# Altium integrated library TI_Logic_Flip-Flop,Latch,Register.IntLib: 2598 symbols (part 90 of 122)
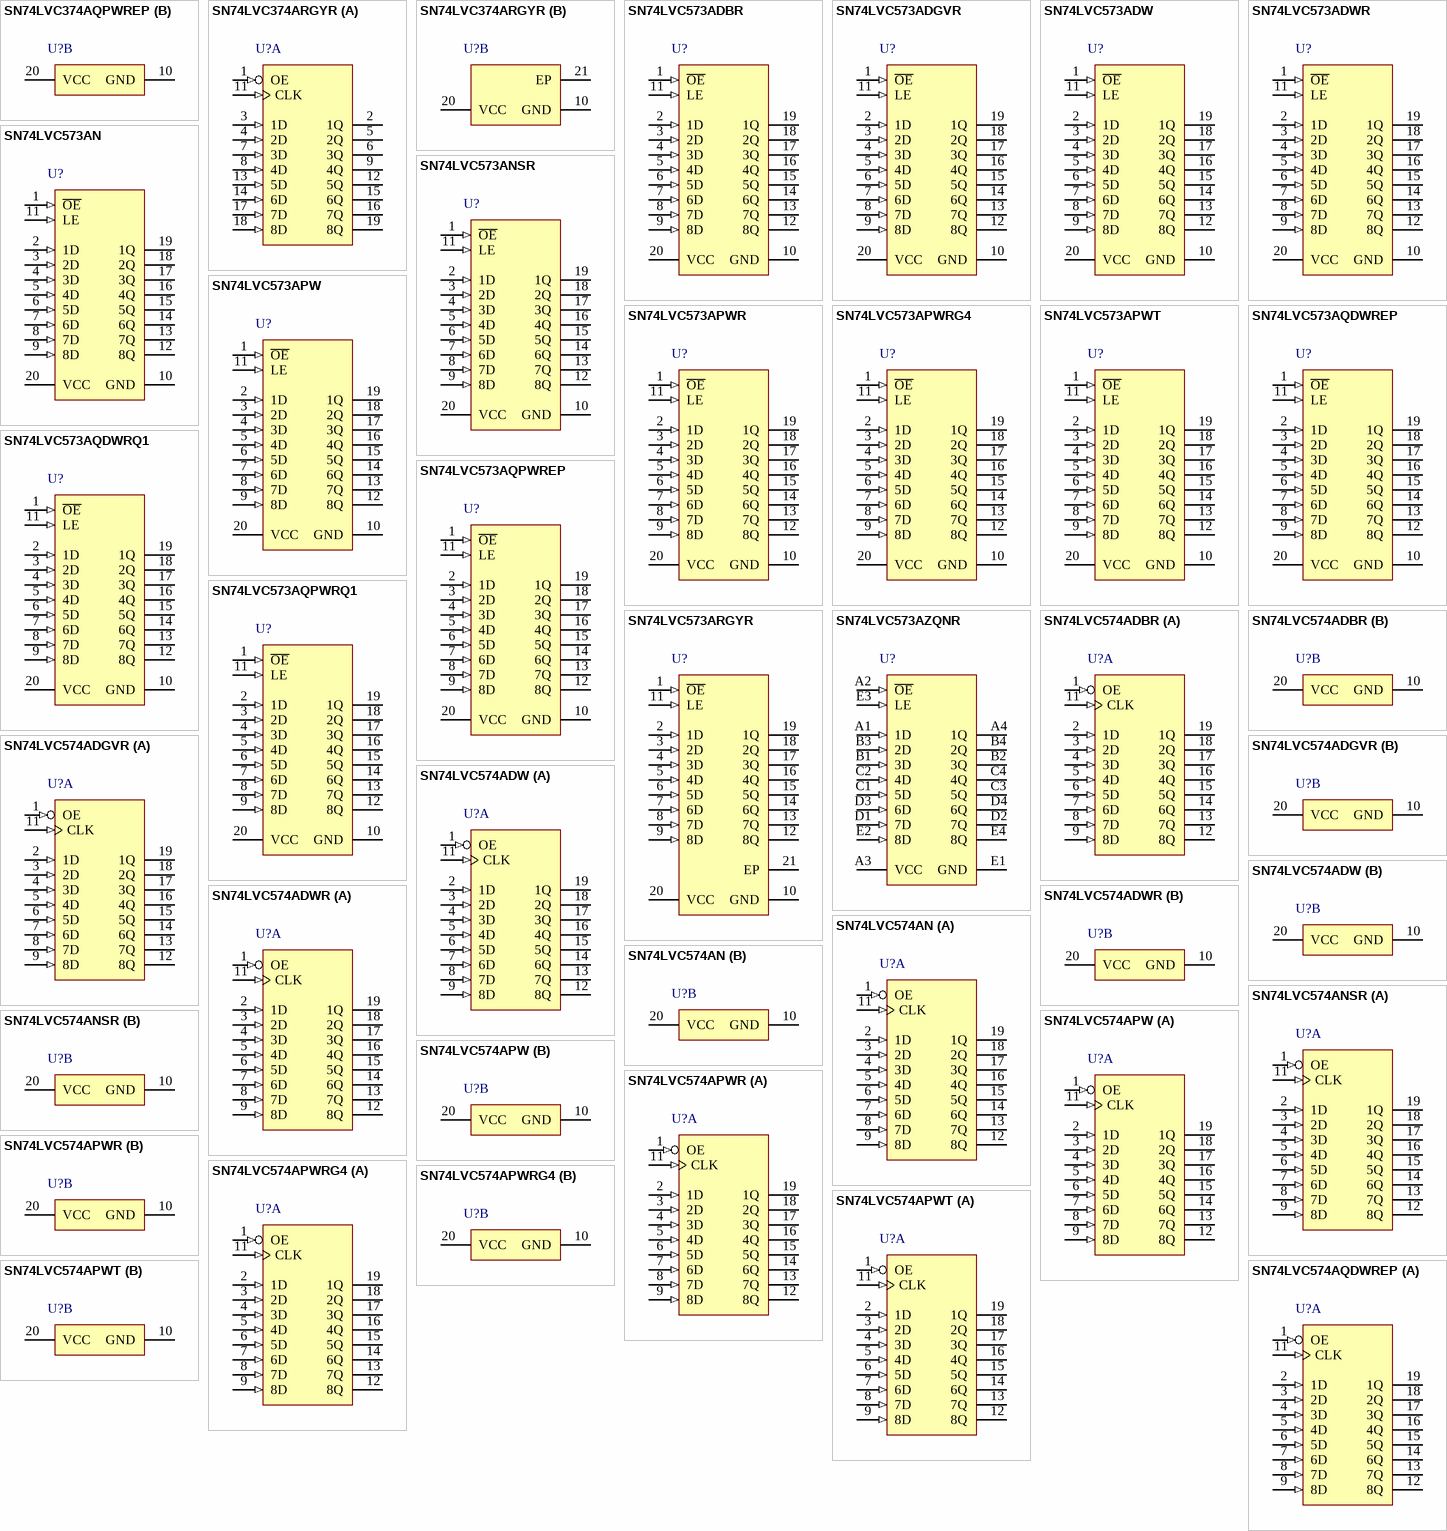
[diagram p228: symbols SN74LVC374AQPWREP to SN74LVC574AQDWREP]

## SN74LVC574ADWR
designator U?
Octal Edge-Triggered D-Type Flip-Flop With 3-State Outputs, DW0020A, LARGE T&R; Generic Part Number: SN74LVC574A; Manufacturer: Texas Instruments; PartNumber: SN74LVC574ADWR; VCC(Min)(V): 1.65; VCC(Max)(V): 3.6; Output Type: CMOS; ICC @ Nom Voltage(Max)(mA): 0.01; Input Type: TTL,CMOS; Bits(#): 8; F @ Nom Voltage(Max)(Mhz): 100; Rating: Catalog; Technology Family: LVC; Voltage(Nom)(V): 1.8,2.5,2.7,3.3; Schmitt Trigger: No; Output Drive (IOL/IOH)(Max)(mA): 24/-24; Output Logic: Non-inverted; 3-State Output: Yes; tpd @ Nom Voltage(Max)(ns): 21.5,10,7.8,8.8; DatasheetVersion: SCAS301R; PackageReference: DW0020A; Supplier 1: Digi-Key; Supplier Part Number 1: 296-14914-2-ND; Supplier 2: Digi-Key; Supplier Part Number 2: 296-14914-1-ND; Supplier 3: Digi-Key; Supplier Part Number 3: 296-14914-6-ND; Supplier 4: Farnell; Supplier Part Number 4: 1739892; Supplier 5: Newark; Supplier Part Number 5: 50R6638; Supplier 6: Mouser; Supplier Part Number 6: 595-SN74LVC574ADWR; Operating Temperature Range(C): -40 to 125,-40 to 85,-55 to 125; Code_JEDEC: MS-013; ComponentLink1Description: Manufacturer URL; ComponentLink1URL: http://www.ti.com/; ComponentLink2Description: Datasheet; ComponentLink2URL: http://www.ti.com/lit/ds/symlink/sn74lvc574a.pdf; ComponentLink3Description: Package Specification; ComponentLink3URL: http://www.ti.com/lit/ml/mpds173a/mpds173a.pdf
footprint DW0020A_N (SOIC, 20-Leads, Body 13x7.6mm, Pitch 1.27mm, IPC Medium Density)
footprint DW0020A_M (SOIC, 20-Leads, Body 13x7.6mm, Pitch 1.27mm, IPC Low Density)
footprint DW0020A_L (SOIC, 20-Leads, Body 13x7.6mm, Pitch 1.27mm, IPC High Density)
part A pins: 1 OE (in), 2 1D (in), 3 2D (in), 4 3D (in), 5 4D (in), 6 5D (in), 7 6D (in), 8 7D (in), 9 8D (in), 11 CLK (in), 12 8Q (hiz), 13 7Q (hiz), 14 6Q (hiz), 15 5Q (hiz), 16 4Q (hiz), 17 3Q (hiz), 18 2Q (hiz), 19 1Q (hiz)
part B pins: 10 GND (power), 20 VCC (power)

## SN74LVC574AN
designator U?
Octal Edge-Triggered D-Type Flip-Flop With 3-State Outputs, N0020A, TUBE; Generic Part Number: SN74LVC574A; Manufacturer: Texas Instruments; PartNumber: SN74LVC574AN; VCC(Min)(V): 1.65; VCC(Max)(V): 3.6; Output Type: CMOS; ICC @ Nom Voltage(Max)(mA): 0.01; Input Type: TTL,CMOS; Bits(#): 8; F @ Nom Voltage(Max)(Mhz): 100; Rating: Catalog; Technology Family: LVC; Voltage(Nom)(V): 1.8,2.5,2.7,3.3; Schmitt Trigger: No; Output Drive (IOL/IOH)(Max)(mA): 24/-24; Output Logic: Non-inverted; 3-State Output: Yes; tpd @ Nom Voltage(Max)(ns): 21.5,10,7.8,8.8; DatasheetVersion: SCAS301R; PackageReference: N0020A; Supplier 1: Digi-Key; Supplier Part Number 1: 296-12910-5-ND; Supplier 2: Farnell; Supplier Part Number 2: 1750048; Supplier 3: Mouser; Supplier Part Number 3: 595-SN74LVC574AN; Operating Temperature Range(C): -40 to 125,-40 to 85,-55 to 125; Code_JEDEC: MS-001; ComponentLink1Description: Manufacturer URL; ComponentLink1URL: http://www.ti.com/; ComponentLink2Description: Datasheet; ComponentLink2URL: http://www.ti.com/lit/ds/symlink/sn74lvc574a.pdf; ComponentLink3Description: Package Specification; ComponentLink3URL: http://www.ti.com/lit/ml/mpdi002c/mpdi002c.pdf
footprint N0020A (DIP, 20-Leads, Body 26.9x6.6mm, Pitch 2.54mm)
part A pins: 1 OE (in), 2 1D (in), 3 2D (in), 4 3D (in), 5 4D (in), 6 5D (in), 7 6D (in), 8 7D (in), 9 8D (in), 11 CLK (in), 12 8Q (hiz), 13 7Q (hiz), 14 6Q (hiz), 15 5Q (hiz), 16 4Q (hiz), 17 3Q (hiz), 18 2Q (hiz), 19 1Q (hiz)
part B pins: 10 GND (power), 20 VCC (power)

## SN74LVC574ANSR
designator U?
Octal Edge-Triggered D-Type Flip-Flop With 3-State Outputs, NS0020A, LARGE T&R; Generic Part Number: SN74LVC574A; Manufacturer: Texas Instruments; PartNumber: SN74LVC574ANSR; VCC(Min)(V): 1.65; VCC(Max)(V): 3.6; Output Type: CMOS; ICC @ Nom Voltage(Max)(mA): 0.01; Input Type: TTL,CMOS; Bits(#): 8; F @ Nom Voltage(Max)(Mhz): 100; Rating: Catalog; Technology Family: LVC; Voltage(Nom)(V): 1.8,2.5,2.7,3.3; Schmitt Trigger: No; Output Drive (IOL/IOH)(Max)(mA): 24/-24; Output Logic: Non-inverted; 3-State Output: Yes; tpd @ Nom Voltage(Max)(ns): 21.5,10,7.8,8.8; DatasheetVersion: SCAS301R; PackageReference: NS0020A; Supplier 1: Digi-Key; Supplier Part Number 1: 296-28852-2-ND; Supplier 2: Digi-Key; Supplier Part Number 2: 296-28852-1-ND; Supplier 3: Digi-Key; Supplier Part Number 3: 296-28852-6-ND; Supplier 4: Mouser; Supplier Part Number 4: 595-SN74LVC574ANSR; Operating Temperature Range(C): -40 to 125,-40 to 85,-55 to 125; ComponentLink1Description: Manufacturer URL; ComponentLink1URL: http://www.ti.com/; ComponentLink2Description: Datasheet; ComponentLink2URL: http://www.ti.com/lit/ds/symlink/sn74lvc574a.pdf; ComponentLink3Description: Package Specification; ComponentLink3URL: http://www.ti.com/lit/ml/msop002a/msop002a.pdf
footprint NS0020A_N (SOIC,20-Leads,Body 12.9x5.6mm,Pitch 1.27mm,IPC Medium Density)
footprint NS0020A_M (SOIC,20-Leads,Body 12.9x5.6mm,Pitch 1.27mm,IPC Low Density)
footprint NS0020A_L (SOIC,20-Leads,Body 12.9x5.6mm,Pitch 1.27mm,IPC High Density)
part A pins: 1 OE (in), 2 1D (in), 3 2D (in), 4 3D (in), 5 4D (in), 6 5D (in), 7 6D (in), 8 7D (in), 9 8D (in), 11 CLK (in), 12 8Q (hiz), 13 7Q (hiz), 14 6Q (hiz), 15 5Q (hiz), 16 4Q (hiz), 17 3Q (hiz), 18 2Q (hiz), 19 1Q (hiz)
part B pins: 10 GND (power), 20 VCC (power)

## SN74LVC574APW
designator U?
Octal Edge-Triggered D-Type Flip-Flop With 3-State Outputs, PW0020A, TUBE; Generic Part Number: SN74LVC574A; Manufacturer: Texas Instruments; PartNumber: SN74LVC574APW; VCC(Min)(V): 1.65; VCC(Max)(V): 3.6; Output Type: CMOS; ICC @ Nom Voltage(Max)(mA): 0.01; Input Type: TTL,CMOS; Bits(#): 8; F @ Nom Voltage(Max)(Mhz): 100; Rating: Catalog; Technology Family: LVC; Voltage(Nom)(V): 1.8,2.5,2.7,3.3; Schmitt Trigger: No; Output Drive (IOL/IOH)(Max)(mA): 24/-24; Output Logic: Non-inverted; 3-State Output: Yes; tpd @ Nom Voltage(Max)(ns): 21.5,10,7.8,8.8; DatasheetVersion: SCAS301R; PackageReference: PW0020A; Supplier 1: Digi-Key; Supplier Part Number 1: 296-26630-5-ND; Supplier 2: Farnell; Supplier Part Number 2: 9592814; Supplier 3: Newark; Supplier Part Number 3: 98K0493; Supplier 4: Mouser; Supplier Part Number 4: 595-SN74LVC574APW; Operating Temperature Range(C): -40 to 125,-40 to 85,-55 to 125; Code_JEDEC: MO-153; ComponentLink1Description: Manufacturer URL; ComponentLink1URL: http://www.ti.com/; ComponentLink2Description: Datasheet; ComponentLink2URL: http://www.ti.com/lit/ds/symlink/sn74lvc574a.pdf; ComponentLink3Description: Package Specification; ComponentLink3URL: http://www.ti.com/lit/ml/mpds362/mpds362.pdf
footprint PW0020A_N (SOP, 20-Leads, Body 6.6x4.5mm, Pitch 0.65mm, IPC Medium Density)
footprint PW0020A_M (SOP, 20-Leads, Body 6.6x4.5mm, Pitch 0.65mm, IPC Low Density)
footprint PW0020A_L (SOP, 20-Leads, Body 6.6x4.5mm, Pitch 0.65mm, IPC High Density)
part A pins: 1 OE (in), 2 1D (in), 3 2D (in), 4 3D (in), 5 4D (in), 6 5D (in), 7 6D (in), 8 7D (in), 9 8D (in), 11 CLK (in), 12 8Q (hiz), 13 7Q (hiz), 14 6Q (hiz), 15 5Q (hiz), 16 4Q (hiz), 17 3Q (hiz), 18 2Q (hiz), 19 1Q (hiz)
part B pins: 10 GND (power), 20 VCC (power)

## SN74LVC574APWR
designator U?
Octal Edge-Triggered D-Type Flip-Flop With 3-State Outputs, PW0020A, LARGE T&R; Generic Part Number: SN74LVC574A; Manufacturer: Texas Instruments; PartNumber: SN74LVC574APWR; VCC(Min)(V): 1.65; VCC(Max)(V): 3.6; Output Type: CMOS; ICC @ Nom Voltage(Max)(mA): 0.01; Input Type: TTL,CMOS; Bits(#): 8; F @ Nom Voltage(Max)(Mhz): 100; Rating: Catalog; Technology Family: LVC; Voltage(Nom)(V): 1.8,2.5,2.7,3.3; Schmitt Trigger: No; Output Drive (IOL/IOH)(Max)(mA): 24/-24; Output Logic: Non-inverted; 3-State Output: Yes; tpd @ Nom Voltage(Max)(ns): 21.5,10,7.8,8.8; DatasheetVersion: SCAS301R; PackageReference: PW0020A; Supplier 1: Digi-Key; Supplier Part Number 1: 296-8532-2-ND; Supplier 2: Digi-Key; Supplier Part Number 2: 296-8532-1-ND; Supplier 3: Digi-Key; Supplier Part Number 3: 296-8532-6-ND; Supplier 4: Farnell; Supplier Part Number 4: 2437277; Supplier 5: Farnell; Supplier Part Number 5: 2120455; Supplier 6: Newark; Supplier Part Number 6: 94T5069; Supplier 7: Newark; Supplier Part Number 7: 76C4321; Supplier 8: Mouser; Supplier Part Number 8: 595-SN74LVC574APWR; Operating Temperature Range(C): -40 to 125,-40 to 85,-55 to 125; Code_JEDEC: MO-153; ComponentLink1Description: Manufacturer URL; ComponentLink1URL: http://www.ti.com/; ComponentLink2Description: Datasheet; ComponentLink2URL: http://www.ti.com/lit/ds/symlink/sn74lvc574a.pdf; ComponentLink3Description: Package Specification; ComponentLink3URL: http://www.ti.com/lit/ml/mpds362/mpds362.pdf
footprint PW0020A_N (SOP, 20-Leads, Body 6.6x4.5mm, Pitch 0.65mm, IPC Medium Density)
footprint PW0020A_M (SOP, 20-Leads, Body 6.6x4.5mm, Pitch 0.65mm, IPC Low Density)
footprint PW0020A_L (SOP, 20-Leads, Body 6.6x4.5mm, Pitch 0.65mm, IPC High Density)
part A pins: 1 OE (in), 2 1D (in), 3 2D (in), 4 3D (in), 5 4D (in), 6 5D (in), 7 6D (in), 8 7D (in), 9 8D (in), 11 CLK (in), 12 8Q (hiz), 13 7Q (hiz), 14 6Q (hiz), 15 5Q (hiz), 16 4Q (hiz), 17 3Q (hiz), 18 2Q (hiz), 19 1Q (hiz)
part B pins: 10 GND (power), 20 VCC (power)

## SN74LVC574APWRG4
designator U?
Octal Edge-Triggered D-Type Flip-Flop With 3-State Outputs, PW0020A, LARGE T&R; Generic Part Number: SN74LVC574A; Manufacturer: Texas Instruments; PartNumber: SN74LVC574APWRG4; VCC(Min)(V): 1.65; VCC(Max)(V): 3.6; Output Type: CMOS; ICC @ Nom Voltage(Max)(mA): 0.01; Input Type: TTL,CMOS; Bits(#): 8; F @ Nom Voltage(Max)(Mhz): 100; Rating: Catalog; Technology Family: LVC; Voltage(Nom)(V): 1.8,2.5,2.7,3.3; Schmitt Trigger: No; Output Drive (IOL/IOH)(Max)(mA): 24/-24; Output Logic: Non-inverted; 3-State Output: Yes; tpd @ Nom Voltage(Max)(ns): 21.5,10,7.8,8.8; DatasheetVersion: SCAS301R; PackageReference: PW0020A; Supplier 1: Digi-Key; Supplier Part Number 1: SN74LVC574APWRG4-ND; Supplier 2: Mouser; Supplier Part Number 2: 595-SN74LVC574APWRG4; Operating Temperature Range(C): -40 to 125,-40 to 85,-55 to 125; Code_JEDEC: MO-153; ComponentLink1Description: Manufacturer URL; ComponentLink1URL: http://www.ti.com/; ComponentLink2Description: Datasheet; ComponentLink2URL: http://www.ti.com/lit/ds/symlink/sn74lvc574a.pdf; ComponentLink3Description: Package Specification; ComponentLink3URL: http://www.ti.com/lit/ml/mpds362/mpds362.pdf
footprint PW0020A_N (SOP, 20-Leads, Body 6.6x4.5mm, Pitch 0.65mm, IPC Medium Density)
footprint PW0020A_M (SOP, 20-Leads, Body 6.6x4.5mm, Pitch 0.65mm, IPC Low Density)
footprint PW0020A_L (SOP, 20-Leads, Body 6.6x4.5mm, Pitch 0.65mm, IPC High Density)
part A pins: 1 OE (in), 2 1D (in), 3 2D (in), 4 3D (in), 5 4D (in), 6 5D (in), 7 6D (in), 8 7D (in), 9 8D (in), 11 CLK (in), 12 8Q (hiz), 13 7Q (hiz), 14 6Q (hiz), 15 5Q (hiz), 16 4Q (hiz), 17 3Q (hiz), 18 2Q (hiz), 19 1Q (hiz)
part B pins: 10 GND (power), 20 VCC (power)

## SN74LVC574APWT
designator U?
Octal Edge-Triggered D-Type Flip-Flop With 3-State Outputs, PW0020A, SMALL T&R; Generic Part Number: SN74LVC574A; Manufacturer: Texas Instruments; PartNumber: SN74LVC574APWT; VCC(Min)(V): 1.65; VCC(Max)(V): 3.6; Output Type: CMOS; ICC @ Nom Voltage(Max)(mA): 0.01; Input Type: TTL,CMOS; Bits(#): 8; F @ Nom Voltage(Max)(Mhz): 100; Rating: Catalog; Technology Family: LVC; Voltage(Nom)(V): 1.8,2.5,2.7,3.3; Schmitt Trigger: No; Output Drive (IOL/IOH)(Max)(mA): 24/-24; Output Logic: Non-inverted; 3-State Output: Yes; tpd @ Nom Voltage(Max)(ns): 21.5,10,7.8,8.8; DatasheetVersion: SCAS301R; PackageReference: PW0020A; Supplier 1: Digi-Key; Supplier Part Number 1: SN74LVC574APWT-ND; Supplier 2: Farnell; Supplier Part Number 2: 2406881; Supplier 3: Newark; Supplier Part Number 3: 45Y7763; Supplier 4: Mouser; Supplier Part Number 4: 595-SN74LVC574APWT; Operating Temperature Range(C): -40 to 125,-40 to 85,-55 to 125; Code_JEDEC: MO-153; ComponentLink1Description: Manufacturer URL; ComponentLink1URL: http://www.ti.com/; ComponentLink2Description: Datasheet; ComponentLink2URL: http://www.ti.com/lit/ds/symlink/sn74lvc574a.pdf; ComponentLink3Description: Package Specification; ComponentLink3URL: http://www.ti.com/lit/ml/mpds362/mpds362.pdf
footprint PW0020A_N (SOP, 20-Leads, Body 6.6x4.5mm, Pitch 0.65mm, IPC Medium Density)
footprint PW0020A_M (SOP, 20-Leads, Body 6.6x4.5mm, Pitch 0.65mm, IPC Low Density)
footprint PW0020A_L (SOP, 20-Leads, Body 6.6x4.5mm, Pitch 0.65mm, IPC High Density)
part A pins: 1 OE (in), 2 1D (in), 3 2D (in), 4 3D (in), 5 4D (in), 6 5D (in), 7 6D (in), 8 7D (in), 9 8D (in), 11 CLK (in), 12 8Q (hiz), 13 7Q (hiz), 14 6Q (hiz), 15 5Q (hiz), 16 4Q (hiz), 17 3Q (hiz), 18 2Q (hiz), 19 1Q (hiz)
part B pins: 10 GND (power), 20 VCC (power)

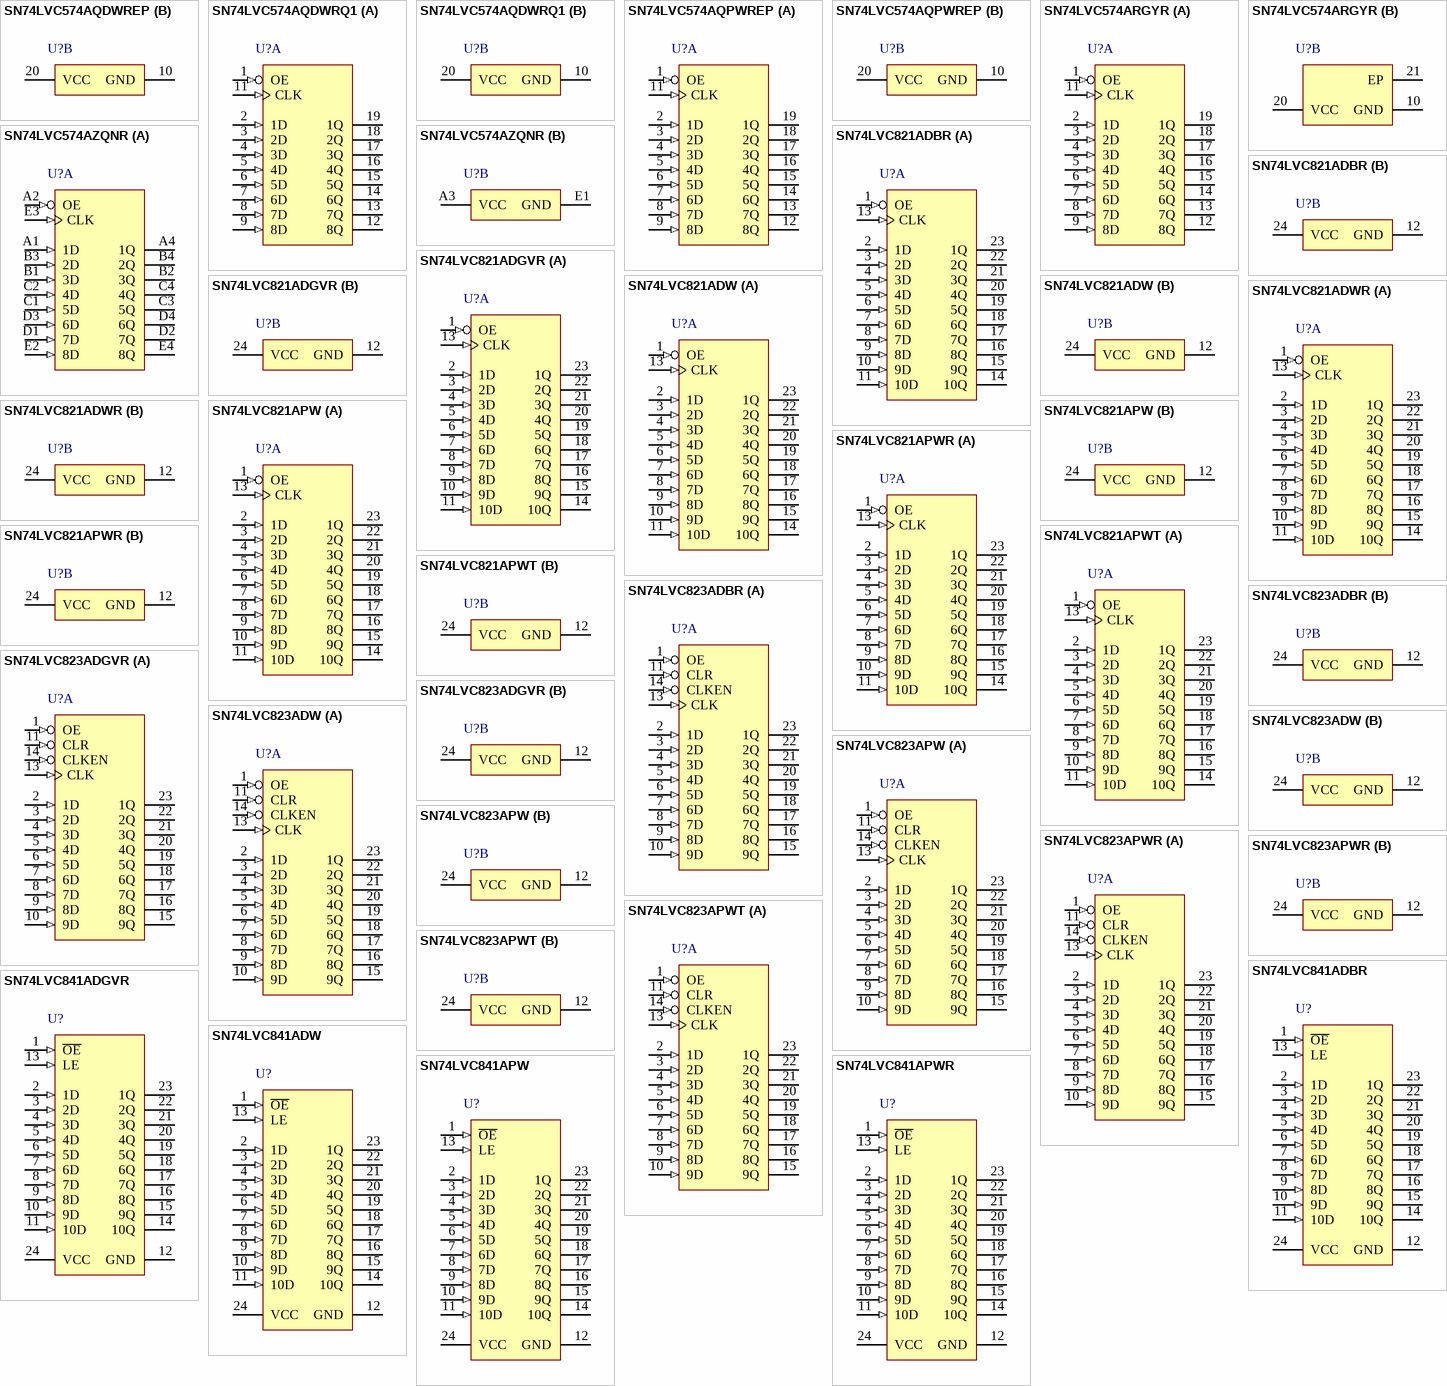
[diagram p106: symbols SN74LVC574AQDWREP to SN74LVC841APWR]

## SN74LVC574AQDWREP
designator U?
Enhanced Product Octal Edge-Triggered D-Type Flip-Flop With 3-State Outputs, DW0020A, LARGE T&R; Generic Part Number: SN74LVC574A-EP; Manufacturer: Texas Instruments; PartNumber: SN74LVC574AQDWREP; VCC(Min)(V): 2; VCC(Max)(V): 3.6; Output Type: CMOS; ICC @ Nom Voltage(Max)(mA): 0.01; Input Type: TTL,CMOS; Bits(#): 8; F @ Nom Voltage(Max)(Mhz): 100; Rating: HiRel Enhanced Product; Technology Family: LVC; Voltage(Nom)(V): 2.7,3.3; Schmitt Trigger: No; Output Drive (IOL/IOH)(Max)(mA): 24/-24; Output Logic: Non-inverted; 3-State Output: Yes; tpd @ Nom Voltage(Max)(ns): 8,7; DatasheetVersion: SCAS750A; PackageReference: DW0020A; Supplier 1: Digi-Key; Supplier Part Number 1: 296-22376-2-ND; Supplier 2: Digi-Key; Supplier Part Number 2: 296-22376-1-ND; Supplier 3: Digi-Key; Supplier Part Number 3: 296-22376-6-ND; Supplier 4: Newark; Supplier Part Number 4: 46M0697; Supplier 5: Mouser; Supplier Part Number 5: 595-N74LVC574AQDWREP; Operating Temperature Range(C): -40 to 125; Code_JEDEC: MS-013; ComponentLink1Description: Manufacturer URL; ComponentLink1URL: http://www.ti.com/; ComponentLink2Description: Datasheet; ComponentLink2URL: http://www.ti.com/lit/ds/symlink/sn74lvc574a-ep.pdf; ComponentLink3Description: Package Specification; ComponentLink3URL: http://www.ti.com/lit/ml/mpds173a/mpds173a.pdf
footprint DW0020A_N (SOIC, 20-Leads, Body 13x7.6mm, Pitch 1.27mm, IPC Medium Density)
footprint DW0020A_M (SOIC, 20-Leads, Body 13x7.6mm, Pitch 1.27mm, IPC Low Density)
footprint DW0020A_L (SOIC, 20-Leads, Body 13x7.6mm, Pitch 1.27mm, IPC High Density)
part A pins: 1 OE (in), 2 1D (in), 3 2D (in), 4 3D (in), 5 4D (in), 6 5D (in), 7 6D (in), 8 7D (in), 9 8D (in), 11 CLK (in), 12 8Q (hiz), 13 7Q (hiz), 14 6Q (hiz), 15 5Q (hiz), 16 4Q (hiz), 17 3Q (hiz), 18 2Q (hiz), 19 1Q (hiz)
part B pins: 10 GND (power), 20 VCC (power)

## SN74LVC574AQDWRQ1
designator U?
Automotive Catalog Octal Edge-Triggered D-Type Flip-Flop With 3-State Outputs, DW0020A, LARGE T&R; Generic Part Number: SN74LVC574A-Q1; Manufacturer: Texas Instruments; PartNumber: SN74LVC574AQDWRQ1; VCC(Min)(V): 2; VCC(Max)(V): 3.6; Output Type: CMOS; ICC @ Nom Voltage(Max)(mA): 0.01; Input Type: TTL,CMOS; Bits(#): 8; F @ Nom Voltage(Max)(Mhz): 100; Technology Family: LVC; Voltage(Nom)(V): 2.7,3.3; Schmitt Trigger: No; Output Drive (IOL/IOH)(Max)(mA): 24/-24; Output Logic: Non-inverted; 3-State Output: Yes; tpd @ Nom Voltage(Max)(ns): 8,7; DatasheetVersion: SCAS715B; PackageReference: DW0020A; Supplier 1: Digi-Key; Supplier Part Number 1: 296-31921-2-ND; Supplier 2: Digi-Key; Supplier Part Number 2: 296-31921-1-ND; Supplier 3: Digi-Key; Supplier Part Number 3: 296-31921-6-ND; Supplier 4: Mouser; Supplier Part Number 4: 595-SN74LVC574AQDWRQ; Operating Temperature Range(C): -40 to 125; Rating: Automotive; Code_JEDEC: MS-013; ComponentLink1Description: Manufacturer URL; ComponentLink1URL: http://www.ti.com/; ComponentLink2Description: Datasheet; ComponentLink2URL: http://www.ti.com/lit/ds/symlink/sn74lvc574a-q1.pdf; ComponentLink3Description: Package Specification; ComponentLink3URL: http://www.ti.com/lit/ml/mpds173a/mpds173a.pdf
footprint DW0020A_N (SOIC, 20-Leads, Body 13x7.6mm, Pitch 1.27mm, IPC Medium Density)
footprint DW0020A_M (SOIC, 20-Leads, Body 13x7.6mm, Pitch 1.27mm, IPC Low Density)
footprint DW0020A_L (SOIC, 20-Leads, Body 13x7.6mm, Pitch 1.27mm, IPC High Density)
part A pins: 1 OE (in), 2 1D (in), 3 2D (in), 4 3D (in), 5 4D (in), 6 5D (in), 7 6D (in), 8 7D (in), 9 8D (in), 11 CLK (in), 12 8Q (hiz), 13 7Q (hiz), 14 6Q (hiz), 15 5Q (hiz), 16 4Q (hiz), 17 3Q (hiz), 18 2Q (hiz), 19 1Q (hiz)
part B pins: 10 GND (power), 20 VCC (power)

## SN74LVC574AQPWREP
designator U?
Enhanced Product Octal Edge-Triggered D-Type Flip-Flop With 3-State Outputs, PW0020A, LARGE T&R; Generic Part Number: SN74LVC574A-EP; Manufacturer: Texas Instruments; PartNumber: SN74LVC574AQPWREP; VCC(Min)(V): 2; VCC(Max)(V): 3.6; Output Type: CMOS; ICC @ Nom Voltage(Max)(mA): 0.01; Input Type: TTL,CMOS; Bits(#): 8; F @ Nom Voltage(Max)(Mhz): 100; Rating: HiRel Enhanced Product; Technology Family: LVC; Voltage(Nom)(V): 2.7,3.3; Schmitt Trigger: No; Output Drive (IOL/IOH)(Max)(mA): 24/-24; Output Logic: Non-inverted; 3-State Output: Yes; tpd @ Nom Voltage(Max)(ns): 8,7; DatasheetVersion: SCAS750A; PackageReference: PW0020A; Supplier 1: Digi-Key; Supplier Part Number 1: 296-22377-2-ND; Supplier 2: Digi-Key; Supplier Part Number 2: 296-22377-1-ND; Supplier 3: Digi-Key; Supplier Part Number 3: 296-22377-6-ND; Supplier 4: Mouser; Supplier Part Number 4: 595-N74LVC574AQPWREP; Operating Temperature Range(C): -40 to 125; Code_JEDEC: MO-153; ComponentLink1Description: Manufacturer URL; ComponentLink1URL: http://www.ti.com/; ComponentLink2Description: Datasheet; ComponentLink2URL: http://www.ti.com/lit/ds/symlink/sn74lvc574a-ep.pdf; ComponentLink3Description: Package Specification; ComponentLink3URL: http://www.ti.com/lit/ml/mpds362/mpds362.pdf
footprint PW0020A_N (SOP, 20-Leads, Body 6.6x4.5mm, Pitch 0.65mm, IPC Medium Density)
footprint PW0020A_M (SOP, 20-Leads, Body 6.6x4.5mm, Pitch 0.65mm, IPC Low Density)
footprint PW0020A_L (SOP, 20-Leads, Body 6.6x4.5mm, Pitch 0.65mm, IPC High Density)
part A pins: 1 OE (in), 2 1D (in), 3 2D (in), 4 3D (in), 5 4D (in), 6 5D (in), 7 6D (in), 8 7D (in), 9 8D (in), 11 CLK (in), 12 8Q (hiz), 13 7Q (hiz), 14 6Q (hiz), 15 5Q (hiz), 16 4Q (hiz), 17 3Q (hiz), 18 2Q (hiz), 19 1Q (hiz)
part B pins: 10 GND (power), 20 VCC (power)

## SN74LVC574ARGYR
designator U?
Octal Edge-Triggered D-Type Flip-Flop With 3-State Outputs, RGY0020A, LARGE T&R; Generic Part Number: SN74LVC574A; Manufacturer: Texas Instruments; PartNumber: SN74LVC574ARGYR; VCC(Min)(V): 1.65; VCC(Max)(V): 3.6; Output Type: CMOS; ICC @ Nom Voltage(Max)(mA): 0.01; Input Type: TTL,CMOS; Bits(#): 8; F @ Nom Voltage(Max)(Mhz): 100; Rating: Catalog; Technology Family: LVC; Voltage(Nom)(V): 1.8,2.5,2.7,3.3; Schmitt Trigger: No; Output Drive (IOL/IOH)(Max)(mA): 24/-24; Output Logic: Non-inverted; 3-State Output: Yes; tpd @ Nom Voltage(Max)(ns): 21.5,10,7.8,8.8; DatasheetVersion: SCAS301R; PackageReference: RGY0020A; Supplier 1: Digi-Key; Supplier Part Number 1: 296-13976-2-ND; Supplier 2: Digi-Key; Supplier Part Number 2: 296-13976-1-ND; Supplier 3: Digi-Key; Supplier Part Number 3: 296-13976-6-ND; Supplier 4: Newark; Supplier Part Number 4: 02E7037; Supplier 5: Mouser; Supplier Part Number 5: 595-SN74LVC574ARGYR; Operating Temperature Range(C): -40 to 125,-40 to 85,-55 to 125; Code_JEDEC: MO-241; ComponentLink1Description: Manufacturer URL; ComponentLink1URL: http://www.ti.com/; ComponentLink2Description: Datasheet; ComponentLink2URL: http://www.ti.com/lit/ds/symlink/sn74lvc574a.pdf; ComponentLink3Description: Package Specification; ComponentLink3URL: http://www.ti.com/lit/ml/mpqf116g/mpqf116g.pdf
footprint RGY0020A_V (QFN, 20-Leads, Body 4.5x3.5mm, Thermal Pad 3.05x2.05mm, TI Recommend)
part A pins: 1 OE (in), 2 1D (in), 3 2D (in), 4 3D (in), 5 4D (in), 6 5D (in), 7 6D (in), 8 7D (in), 9 8D (in), 11 CLK (in), 12 8Q (hiz), 13 7Q (hiz), 14 6Q (hiz), 15 5Q (hiz), 16 4Q (hiz), 17 3Q (hiz), 18 2Q (hiz), 19 1Q (hiz)
part B pins: 10 GND (power), 20 VCC (power), 21 EP

## SN74LVC574AZQNR
designator U?
Octal Edge-Triggered D-Type Flip-Flop With 3-State Outputs, ZQN0020A, LARGE T&R; Generic Part Number: SN74LVC574A; Manufacturer: Texas Instruments; PartNumber: SN74LVC574AZQNR; VCC(Min)(V): 1.65; VCC(Max)(V): 3.6; Output Type: CMOS; ICC @ Nom Voltage(Max)(mA): 0.01; Input Type: TTL,CMOS; Bits(#): 8; F @ Nom Voltage(Max)(Mhz): 100; Rating: Catalog; Technology Family: LVC; Voltage(Nom)(V): 1.8,2.5,2.7,3.3; Schmitt Trigger: No; Output Drive (IOL/IOH)(Max)(mA): 24/-24; Output Logic: Non-inverted; 3-State Output: Yes; tpd @ Nom Voltage(Max)(ns): 21.5,10,7.8,8.8; DatasheetVersion: SCAS301R; PackageReference: ZQN0020A; Supplier 1: Digi-Key; Supplier Part Number 1: 296-22017-2-ND; Supplier 2: Digi-Key; Supplier Part Number 2: 296-22017-1-ND; Supplier 3: Digi-Key; Supplier Part Number 3: 296-22017-6-ND; Supplier 4: Mouser; Supplier Part Number 4: 595-SN74LVC574AZQNR; Operating Temperature Range(C): -40 to 125,-40 to 85,-55 to 125; Code_JEDEC: MO-285; ComponentLink1Description: Manufacturer URL; ComponentLink1URL: http://www.ti.com/; ComponentLink2Description: Datasheet; ComponentLink2URL: http://www.ti.com/lit/ds/symlink/sn74lvc574a.pdf; ComponentLink3Description: Package Specification; ComponentLink3URL: http://www.ti.com/lit/ml/mpbg297b/mpbg297b.pdf
footprint ZQN0020A (BGA, 20-Balls, Body 4x3mm, Pitch 0.65mm)
part A pins: A1 1D (in), A2 OE (in), A4 1Q (hiz), B1 3D (in), B2 3Q (hiz), B3 2D (in), B4 2Q (hiz), C1 5D (in), C2 4D (in), C3 5Q (hiz), C4 4Q (hiz), D1 7D (in), D2 7Q (hiz), D3 6D (in), D4 6Q (hiz), E2 8D (in), E3 CLK (in), E4 8Q (hiz)
part B pins: A3 VCC (power), E1 GND (power)

## SN74LVC821ADBR
designator U?
10-Bit Bus-Interface Flip-Flop With 3-State Outputs, DB0024A, LARGE T&R; Generic Part Number: SN74LVC821A; Manufacturer: Texas Instruments; PartNumber: SN74LVC821ADBR; VCC(Min)(V): 1.65; VCC(Max)(V): 3.6; Output Type: CMOS; ICC @ Nom Voltage(Max)(mA): 0.01; Input Type: TTL,CMOS; Bits(#): 10; F @ Nom Voltage(Max)(Mhz): 100; Rating: Catalog; Technology Family: LVC; Voltage(Nom)(V): 1.8,2.5,2.7,3.3; Schmitt Trigger: No; Output Drive (IOL/IOH)(Max)(mA): 24/-24; Output Logic: Non-inverted; 3-State Output: Yes; tpd @ Nom Voltage(Max)(ns): 8.5,7.3; DatasheetVersion: SCAS304J; PackageReference: DB0024A; Supplier 1: Digi-Key; Supplier Part Number 1: 296-8539-2-ND; Supplier 2: Digi-Key; Supplier Part Number 2: 296-8539-1-ND; Supplier 3: Digi-Key; Supplier Part Number 3: 296-8539-6-ND; Supplier 4: Mouser; Supplier Part Number 4: 595-SN74LVC821ADBR; Operating Temperature Range(C): -40 to 85; Code_JEDEC: MO-150; ComponentLink1Description: Manufacturer URL; ComponentLink1URL: http://www.ti.com/; ComponentLink2Description: Datasheet; ComponentLink2URL: http://www.ti.com/lit/ds/symlink/sn74lvc821a.pdf; ComponentLink3Description: Package Specification; ComponentLink3URL: http://www.ti.com/lit/ml/mpds509/mpds509.pdf
footprint DB0024A_N (SOP, 24-Leads, Body 5.6x8.5mm, Pitch 0.65mm, IPC Medium Density)
footprint DB0024A_M (SOP, 24-Leads, Body 5.6x8.5mm, Pitch 0.65mm, IPC Low Density)
footprint DB0024A_L (SOP, 24-Leads, Body 5.6x8.5mm, Pitch 0.65mm, IPC High Density)
part A pins: 1 OE (in), 2 1D (in), 3 2D (in), 4 3D (in), 5 4D (in), 6 5D (in), 7 6D (in), 8 7D (in), 9 8D (in), 10 9D (in), 11 10D (in), 13 CLK (in), 14 10Q (hiz), 15 9Q (hiz), 16 8Q (hiz), 17 7Q (hiz), 18 6Q (hiz), 19 5Q (hiz), 20 4Q (hiz), 21 3Q (hiz), 22 2Q (hiz), 23 1Q (hiz)
part B pins: 12 GND (power), 24 VCC (power)

## SN74LVC821ADGVR
designator U?
10-Bit Bus-Interface Flip-Flop With 3-State Outputs, DGV0024A, LARGE T&R; Generic Part Number: SN74LVC821A; Manufacturer: Texas Instruments; PartNumber: SN74LVC821ADGVR; VCC(Min)(V): 1.65; VCC(Max)(V): 3.6; Output Type: CMOS; ICC @ Nom Voltage(Max)(mA): 0.01; Input Type: TTL,CMOS; Bits(#): 10; F @ Nom Voltage(Max)(Mhz): 100; Rating: Catalog; Technology Family: LVC; Voltage(Nom)(V): 1.8,2.5,2.7,3.3; Schmitt Trigger: No; Output Drive (IOL/IOH)(Max)(mA): 24/-24; Output Logic: Non-inverted; 3-State Output: Yes; tpd @ Nom Voltage(Max)(ns): 8.5,7.3; DatasheetVersion: SCAS304J; PackageReference: DGV0024A; Supplier 1: Digi-Key; Supplier Part Number 1: 296-8540-2-ND; Supplier 2: Digi-Key; Supplier Part Number 2: 296-8540-1-ND; Supplier 3: Digi-Key; Supplier Part Number 3: 296-8540-6-ND; Supplier 4: Mouser; Supplier Part Number 4: 595-SN74LVC821ADGVR; Operating Temperature Range(C): -40 to 85; Code_JEDEC: MO-153; ComponentLink1Description: Manufacturer URL; ComponentLink1URL: http://www.ti.com/; ComponentLink2Description: Datasheet; ComponentLink2URL: http://www.ti.com/lit/ds/symlink/sn74lvc821a.pdf; ComponentLink3Description: Package Specification; ComponentLink3URL: http://www.ti.com/lit/ml/mpds006c/mpds006c.pdf
footprint DGV0024A_N (SOP, 24-Leads, Body 4.5x5.1mm, Pitch 0.4mm, IPC Medium Density)
footprint DGV0024A_M (SOP, 24-Leads, Body 4.5x5.1mm, Pitch 0.4mm, IPC Low Density)
footprint DGV0024A_L (SOP, 24-Leads, Body 4.5x5.1mm, Pitch 0.4mm, IPC High Density)
part A pins: 1 OE (in), 2 1D (in), 3 2D (in), 4 3D (in), 5 4D (in), 6 5D (in), 7 6D (in), 8 7D (in), 9 8D (in), 10 9D (in), 11 10D (in), 13 CLK (in), 14 10Q (hiz), 15 9Q (hiz), 16 8Q (hiz), 17 7Q (hiz), 18 6Q (hiz), 19 5Q (hiz), 20 4Q (hiz), 21 3Q (hiz), 22 2Q (hiz), 23 1Q (hiz)
part B pins: 12 GND (power), 24 VCC (power)

## SN74LVC821ADW
designator U?
10-Bit Bus-Interface Flip-Flop With 3-State Outputs, DW0024A, TUBE; Generic Part Number: SN74LVC821A; Manufacturer: Texas Instruments; PartNumber: SN74LVC821ADW; VCC(Min)(V): 1.65; VCC(Max)(V): 3.6; Output Type: CMOS; ICC @ Nom Voltage(Max)(mA): 0.01; Input Type: TTL,CMOS; Bits(#): 10; F @ Nom Voltage(Max)(Mhz): 100; Rating: Catalog; Technology Family: LVC; Voltage(Nom)(V): 1.8,2.5,2.7,3.3; Schmitt Trigger: No; Output Drive (IOL/IOH)(Max)(mA): 24/-24; Output Logic: Non-inverted; 3-State Output: Yes; tpd @ Nom Voltage(Max)(ns): 8.5,7.3; DatasheetVersion: SCAS304J; PackageReference: DW0024A; Supplier 1: Digi-Key; Supplier Part Number 1: 296-1703-5-ND; Supplier 2: Farnell; Supplier Part Number 2: 1750049; Supplier 3: Mouser; Supplier Part Number 3: 595-SN74LVC821ADW; Operating Temperature Range(C): -40 to 85; Code_JEDEC: MS-013; ComponentLink1Description: Manufacturer URL; ComponentLink1URL: http://www.ti.com/; ComponentLink2Description: Datasheet; ComponentLink2URL: http://www.ti.com/lit/ds/symlink/sn74lvc821a.pdf; ComponentLink3Description: Package Specification; ComponentLink3URL: http://www.ti.com/lit/ml/mpds174a/mpds174a.pdf
footprint DW0024A_N (SOIC, 24-Leads, Body 15.6x7.6mm, Pitch 1.27mm, IPC Medium Density)
footprint DW0024A_M (SOIC, 24-Leads, Body 15.6x7.6mm, Pitch 1.27mm, IPC Low Density)
footprint DW0024A_L (SOIC, 24-Leads, Body 15.6x7.6mm, Pitch 1.27mm, IPC High Density)
part A pins: 1 OE (in), 2 1D (in), 3 2D (in), 4 3D (in), 5 4D (in), 6 5D (in), 7 6D (in), 8 7D (in), 9 8D (in), 10 9D (in), 11 10D (in), 13 CLK (in), 14 10Q (hiz), 15 9Q (hiz), 16 8Q (hiz), 17 7Q (hiz), 18 6Q (hiz), 19 5Q (hiz), 20 4Q (hiz), 21 3Q (hiz), 22 2Q (hiz), 23 1Q (hiz)
part B pins: 12 GND (power), 24 VCC (power)

## SN74LVC821ADWR
designator U?
10-Bit Bus-Interface Flip-Flop With 3-State Outputs, DW0024A, LARGE T&R; Generic Part Number: SN74LVC821A; Manufacturer: Texas Instruments; PartNumber: SN74LVC821ADWR; VCC(Min)(V): 1.65; VCC(Max)(V): 3.6; Output Type: CMOS; ICC @ Nom Voltage(Max)(mA): 0.01; Input Type: TTL,CMOS; Bits(#): 10; F @ Nom Voltage(Max)(Mhz): 100; Rating: Catalog; Technology Family: LVC; Voltage(Nom)(V): 1.8,2.5,2.7,3.3; Schmitt Trigger: No; Output Drive (IOL/IOH)(Max)(mA): 24/-24; Output Logic: Non-inverted; 3-State Output: Yes; tpd @ Nom Voltage(Max)(ns): 8.5,7.3; DatasheetVersion: SCAS304J; PackageReference: DW0024A; Supplier 1: Digi-Key; Supplier Part Number 1: 296-1703-2-ND; Supplier 2: Digi-Key; Supplier Part Number 2: 296-1703-1-ND; Supplier 3: Digi-Key; Supplier Part Number 3: 296-1703-6-ND; Supplier 4: Mouser; Supplier Part Number 4: 595-SN74LVC821ADWR; Operating Temperature Range(C): -40 to 85; Code_JEDEC: MS-013; ComponentLink1Description: Manufacturer URL; ComponentLink1URL: http://www.ti.com/; ComponentLink2Description: Datasheet; ComponentLink2URL: http://www.ti.com/lit/ds/symlink/sn74lvc821a.pdf; ComponentLink3Description: Package Specification; ComponentLink3URL: http://www.ti.com/lit/ml/mpds174a/mpds174a.pdf
footprint DW0024A_N (SOIC, 24-Leads, Body 15.6x7.6mm, Pitch 1.27mm, IPC Medium Density)
footprint DW0024A_M (SOIC, 24-Leads, Body 15.6x7.6mm, Pitch 1.27mm, IPC Low Density)
footprint DW0024A_L (SOIC, 24-Leads, Body 15.6x7.6mm, Pitch 1.27mm, IPC High Density)
part A pins: 1 OE (in), 2 1D (in), 3 2D (in), 4 3D (in), 5 4D (in), 6 5D (in), 7 6D (in), 8 7D (in), 9 8D (in), 10 9D (in), 11 10D (in), 13 CLK (in), 14 10Q (hiz), 15 9Q (hiz), 16 8Q (hiz), 17 7Q (hiz), 18 6Q (hiz), 19 5Q (hiz), 20 4Q (hiz), 21 3Q (hiz), 22 2Q (hiz), 23 1Q (hiz)
part B pins: 12 GND (power), 24 VCC (power)

## SN74LVC821APW
designator U?
10-Bit Bus-Interface Flip-Flop With 3-State Outputs, PW0024A, TUBE; Generic Part Number: SN74LVC821A; Manufacturer: Texas Instruments; PartNumber: SN74LVC821APW; VCC(Min)(V): 1.65; VCC(Max)(V): 3.6; Output Type: CMOS; ICC @ Nom Voltage(Max)(mA): 0.01; Input Type: TTL,CMOS; Bits(#): 10; F @ Nom Voltage(Max)(Mhz): 100; Rating: Catalog; Technology Family: LVC; Voltage(Nom)(V): 1.8,2.5,2.7,3.3; Schmitt Trigger: No; Output Drive (IOL/IOH)(Max)(mA): 24/-24; Output Logic: Non-inverted; 3-State Output: Yes; tpd @ Nom Voltage(Max)(ns): 8.5,7.3; DatasheetVersion: SCAS304J; PackageReference: PW0024A; Supplier 1: Digi-Key; Supplier Part Number 1: 296-34075-5-ND; Supplier 2: Mouser; Supplier Part Number 2: 595-SN74LVC821APW; Operating Temperature Range(C): -40 to 85; Code_JEDEC: MO-153; ComponentLink1Description: Manufacturer URL; ComponentLink1URL: http://www.ti.com/; ComponentLink2Description: Datasheet; ComponentLink2URL: http://www.ti.com/lit/ds/symlink/sn74lvc821a.pdf; ComponentLink3Description: Package Specification; ComponentLink3URL: http://www.ti.com/lit/ml/mpds363/mpds363.pdf
footprint PW0024A_N (SOP, 24-Leads, Body 7.9x4.5mm, Pitch 0.65mm, IPC Medium Density)
footprint PW0024A_M (SOP, 24-Leads, Body 7.9x4.5mm, Pitch 0.65mm, IPC Low Density)
footprint PW0024A_L (SOP, 24-Leads, Body 7.9x4.5mm, Pitch 0.65mm, IPC High Density)
part A pins: 1 OE (in), 2 1D (in), 3 2D (in), 4 3D (in), 5 4D (in), 6 5D (in), 7 6D (in), 8 7D (in), 9 8D (in), 10 9D (in), 11 10D (in), 13 CLK (in), 14 10Q (hiz), 15 9Q (hiz), 16 8Q (hiz), 17 7Q (hiz), 18 6Q (hiz), 19 5Q (hiz), 20 4Q (hiz), 21 3Q (hiz), 22 2Q (hiz), 23 1Q (hiz)
part B pins: 12 GND (power), 24 VCC (power)

## SN74LVC821APWR
designator U?
10-Bit Bus-Interface Flip-Flop With 3-State Outputs, PW0024A, LARGE T&R; Generic Part Number: SN74LVC821A; Manufacturer: Texas Instruments; PartNumber: SN74LVC821APWR; VCC(Min)(V): 1.65; VCC(Max)(V): 3.6; Output Type: CMOS; ICC @ Nom Voltage(Max)(mA): 0.01; Input Type: TTL,CMOS; Bits(#): 10; F @ Nom Voltage(Max)(Mhz): 100; Rating: Catalog; Technology Family: LVC; Voltage(Nom)(V): 1.8,2.5,2.7,3.3; Schmitt Trigger: No; Output Drive (IOL/IOH)(Max)(mA): 24/-24; Output Logic: Non-inverted; 3-State Output: Yes; tpd @ Nom Voltage(Max)(ns): 8.5,7.3; DatasheetVersion: SCAS304J; PackageReference: PW0024A; Supplier 1: Digi-Key; Supplier Part Number 1: 296-8541-2-ND; Supplier 2: Digi-Key; Supplier Part Number 2: 296-8541-1-ND; Supplier 3: Digi-Key; Supplier Part Number 3: 296-8541-6-ND; Supplier 4: Newark; Supplier Part Number 4: 76C4336; Supplier 5: Mouser; Supplier Part Number 5: 595-SN74LVC821APWR; Operating Temperature Range(C): -40 to 85; Code_JEDEC: MO-153; ComponentLink1Description: Manufacturer URL; ComponentLink1URL: http://www.ti.com/; ComponentLink2Description: Datasheet; ComponentLink2URL: http://www.ti.com/lit/ds/symlink/sn74lvc821a.pdf; ComponentLink3Description: Package Specification; ComponentLink3URL: http://www.ti.com/lit/ml/mpds363/mpds363.pdf
footprint PW0024A_N (SOP, 24-Leads, Body 7.9x4.5mm, Pitch 0.65mm, IPC Medium Density)
footprint PW0024A_M (SOP, 24-Leads, Body 7.9x4.5mm, Pitch 0.65mm, IPC Low Density)
footprint PW0024A_L (SOP, 24-Leads, Body 7.9x4.5mm, Pitch 0.65mm, IPC High Density)
part A pins: 1 OE (in), 2 1D (in), 3 2D (in), 4 3D (in), 5 4D (in), 6 5D (in), 7 6D (in), 8 7D (in), 9 8D (in), 10 9D (in), 11 10D (in), 13 CLK (in), 14 10Q (hiz), 15 9Q (hiz), 16 8Q (hiz), 17 7Q (hiz), 18 6Q (hiz), 19 5Q (hiz), 20 4Q (hiz), 21 3Q (hiz), 22 2Q (hiz), 23 1Q (hiz)
part B pins: 12 GND (power), 24 VCC (power)

## SN74LVC821APWT
designator U?
10-Bit Bus-Interface Flip-Flop With 3-State Outputs, PW0024A, SMALL T&R; Generic Part Number: SN74LVC821A; Manufacturer: Texas Instruments; PartNumber: SN74LVC821APWT; VCC(Min)(V): 1.65; VCC(Max)(V): 3.6; Output Type: CMOS; ICC @ Nom Voltage(Max)(mA): 0.01; Input Type: TTL,CMOS; Bits(#): 10; F @ Nom Voltage(Max)(Mhz): 100; Rating: Catalog; Technology Family: LVC; Voltage(Nom)(V): 1.8,2.5,2.7,3.3; Schmitt Trigger: No; Output Drive (IOL/IOH)(Max)(mA): 24/-24; Output Logic: Non-inverted; 3-State Output: Yes; tpd @ Nom Voltage(Max)(ns): 8.5,7.3; DatasheetVersion: SCAS304J; PackageReference: PW0024A; Supplier 1: Digi-Key; Supplier Part Number 1: SN74LVC821APWT-ND; Supplier 2: Mouser; Supplier Part Number 2: 595-SN74LVC821APWT; Operating Temperature Range(C): -40 to 85; Code_JEDEC: MO-153; ComponentLink1Description: Manufacturer URL; ComponentLink1URL: http://www.ti.com/; ComponentLink2Description: Datasheet; ComponentLink2URL: http://www.ti.com/lit/ds/symlink/sn74lvc821a.pdf; ComponentLink3Description: Package Specification; ComponentLink3URL: http://www.ti.com/lit/ml/mpds363/mpds363.pdf
footprint PW0024A_N (SOP, 24-Leads, Body 7.9x4.5mm, Pitch 0.65mm, IPC Medium Density)
footprint PW0024A_M (SOP, 24-Leads, Body 7.9x4.5mm, Pitch 0.65mm, IPC Low Density)
footprint PW0024A_L (SOP, 24-Leads, Body 7.9x4.5mm, Pitch 0.65mm, IPC High Density)
part A pins: 1 OE (in), 2 1D (in), 3 2D (in), 4 3D (in), 5 4D (in), 6 5D (in), 7 6D (in), 8 7D (in), 9 8D (in), 10 9D (in), 11 10D (in), 13 CLK (in), 14 10Q (hiz), 15 9Q (hiz), 16 8Q (hiz), 17 7Q (hiz), 18 6Q (hiz), 19 5Q (hiz), 20 4Q (hiz), 21 3Q (hiz), 22 2Q (hiz), 23 1Q (hiz)
part B pins: 12 GND (power), 24 VCC (power)

## SN74LVC823ADBR
designator U?
9-Bit Bus-Interface Flip-Flop With 3-State Outputs, DB0024A, LARGE T&R; Generic Part Number: SN74LVC823A; Manufacturer: Texas Instruments; PartNumber: SN74LVC823ADBR; VCC(Min)(V): 1.65; VCC(Max)(V): 3.6; Output Type: CMOS; ICC @ Nom Voltage(Max)(mA): 0.01; Input Type: TTL,CMOS; Bits(#): 9; F @ Nom Voltage(Max)(Mhz): 100; Rating: Catalog; Technology Family: LVC; Voltage(Nom)(V): 1.8,2.5,2.7,3.3; Schmitt Trigger: No; Output Drive (IOL/IOH)(Max)(mA): 24/-24; Output Logic: Non-inverted; 3-State Output: Yes; tpd @ Nom Voltage(Max)(ns): 8.9,8; DatasheetVersion: SCAS305I; PackageReference: DB0024A; Supplier 1: Digi-Key; Supplier Part Number 1: 296-8542-2-ND; Supplier 2: Digi-Key; Supplier Part Number 2: 296-8542-1-ND; Supplier 3: Digi-Key; Supplier Part Number 3: 296-8542-6-ND; Supplier 4: Mouser; Supplier Part Number 4: 595-SN74LVC823ADBR; Operating Temperature Range(C): -40 to 85; Code_JEDEC: MO-150; ComponentLink1Description: Manufacturer URL; ComponentLink1URL: http://www.ti.com/; ComponentLink2Description: Datasheet; ComponentLink2URL: http://www.ti.com/lit/ds/symlink/sn74lvc823a.pdf; ComponentLink3Description: Package Specification; ComponentLink3URL: http://www.ti.com/lit/ml/mpds509/mpds509.pdf
footprint DB0024A_N (SOP, 24-Leads, Body 5.6x8.5mm, Pitch 0.65mm, IPC Medium Density)
footprint DB0024A_M (SOP, 24-Leads, Body 5.6x8.5mm, Pitch 0.65mm, IPC Low Density)
footprint DB0024A_L (SOP, 24-Leads, Body 5.6x8.5mm, Pitch 0.65mm, IPC High Density)
part A pins: 1 OE (in), 2 1D (in), 3 2D (in), 4 3D (in), 5 4D (in), 6 5D (in), 7 6D (in), 8 7D (in), 9 8D (in), 10 9D (in), 11 CLR (in), 13 CLK (in), 14 CLKEN (in), 15 9Q (hiz), 16 8Q (hiz), 17 7Q (hiz), 18 6Q (hiz), 19 5Q (hiz), 20 4Q (hiz), 21 3Q (hiz), 22 2Q (hiz), 23 1Q (hiz)
part B pins: 12 GND (power), 24 VCC (power)

## SN74LVC823ADGVR
designator U?
9-Bit Bus-Interface Flip-Flop With 3-State Outputs, DGV0024A, LARGE T&R; Generic Part Number: SN74LVC823A; Manufacturer: Texas Instruments; PartNumber: SN74LVC823ADGVR; VCC(Min)(V): 1.65; VCC(Max)(V): 3.6; Output Type: CMOS; ICC @ Nom Voltage(Max)(mA): 0.01; Input Type: TTL,CMOS; Bits(#): 9; F @ Nom Voltage(Max)(Mhz): 100; Rating: Catalog; Technology Family: LVC; Voltage(Nom)(V): 1.8,2.5,2.7,3.3; Schmitt Trigger: No; Output Drive (IOL/IOH)(Max)(mA): 24/-24; Output Logic: Non-inverted; 3-State Output: Yes; tpd @ Nom Voltage(Max)(ns): 8.9,8; DatasheetVersion: SCAS305I; PackageReference: DGV0024A; Supplier 1: Digi-Key; Supplier Part Number 1: 296-8543-2-ND; Supplier 2: Digi-Key; Supplier Part Number 2: 296-8543-1-ND; Supplier 3: Digi-Key; Supplier Part Number 3: 296-8543-6-ND; Supplier 4: Mouser; Supplier Part Number 4: 595-SN74LVC823ADGVR; Operating Temperature Range(C): -40 to 85; Code_JEDEC: MO-153; ComponentLink1Description: Manufacturer URL; ComponentLink1URL: http://www.ti.com/; ComponentLink2Description: Datasheet; ComponentLink2URL: http://www.ti.com/lit/ds/symlink/sn74lvc823a.pdf; ComponentLink3Description: Package Specification; ComponentLink3URL: http://www.ti.com/lit/ml/mpds006c/mpds006c.pdf
footprint DGV0024A_N (SOP, 24-Leads, Body 4.5x5.1mm, Pitch 0.4mm, IPC Medium Density)
footprint DGV0024A_M (SOP, 24-Leads, Body 4.5x5.1mm, Pitch 0.4mm, IPC Low Density)
footprint DGV0024A_L (SOP, 24-Leads, Body 4.5x5.1mm, Pitch 0.4mm, IPC High Density)
part A pins: 1 OE (in), 2 1D (in), 3 2D (in), 4 3D (in), 5 4D (in), 6 5D (in), 7 6D (in), 8 7D (in), 9 8D (in), 10 9D (in), 11 CLR (in), 13 CLK (in), 14 CLKEN (in), 15 9Q (hiz), 16 8Q (hiz), 17 7Q (hiz), 18 6Q (hiz), 19 5Q (hiz), 20 4Q (hiz), 21 3Q (hiz), 22 2Q (hiz), 23 1Q (hiz)
part B pins: 12 GND (power), 24 VCC (power)

## SN74LVC823ADW
designator U?
9-Bit Bus-Interface Flip-Flop With 3-State Outputs, DW0024A, TUBE; Generic Part Number: SN74LVC823A; Manufacturer: Texas Instruments; PartNumber: SN74LVC823ADW; VCC(Min)(V): 1.65; VCC(Max)(V): 3.6; Output Type: CMOS; ICC @ Nom Voltage(Max)(mA): 0.01; Input Type: TTL,CMOS; Bits(#): 9; F @ Nom Voltage(Max)(Mhz): 100; Rating: Catalog; Technology Family: LVC; Voltage(Nom)(V): 1.8,2.5,2.7,3.3; Schmitt Trigger: No; Output Drive (IOL/IOH)(Max)(mA): 24/-24; Output Logic: Non-inverted; 3-State Output: Yes; tpd @ Nom Voltage(Max)(ns): 8.9,8; DatasheetVersion: SCAS305I; PackageReference: DW0024A; Supplier 1: Digi-Key; Supplier Part Number 1: 296-12911-5-ND; Supplier 2: Farnell; Supplier Part Number 2: 1750050; Supplier 3: Newark; Supplier Part Number 3: 76C4339; Supplier 4: Mouser; Supplier Part Number 4: 595-SN74LVC823ADW; Operating Temperature Range(C): -40 to 85; Code_JEDEC: MS-013; ComponentLink1Description: Manufacturer URL; ComponentLink1URL: http://www.ti.com/; ComponentLink2Description: Datasheet; ComponentLink2URL: http://www.ti.com/lit/ds/symlink/sn74lvc823a.pdf; ComponentLink3Description: Package Specification; ComponentLink3URL: http://www.ti.com/lit/ml/mpds174a/mpds174a.pdf
footprint DW0024A_N (SOIC, 24-Leads, Body 15.6x7.6mm, Pitch 1.27mm, IPC Medium Density)
footprint DW0024A_M (SOIC, 24-Leads, Body 15.6x7.6mm, Pitch 1.27mm, IPC Low Density)
footprint DW0024A_L (SOIC, 24-Leads, Body 15.6x7.6mm, Pitch 1.27mm, IPC High Density)
part A pins: 1 OE (in), 2 1D (in), 3 2D (in), 4 3D (in), 5 4D (in), 6 5D (in), 7 6D (in), 8 7D (in), 9 8D (in), 10 9D (in), 11 CLR (in), 13 CLK (in), 14 CLKEN (in), 15 9Q (hiz), 16 8Q (hiz), 17 7Q (hiz), 18 6Q (hiz), 19 5Q (hiz), 20 4Q (hiz), 21 3Q (hiz), 22 2Q (hiz), 23 1Q (hiz)
part B pins: 12 GND (power), 24 VCC (power)

## SN74LVC823APW
designator U?
9-Bit Bus-Interface Flip-Flop With 3-State Outputs, PW0024A, TUBE; Generic Part Number: SN74LVC823A; Manufacturer: Texas Instruments; PartNumber: SN74LVC823APW; VCC(Min)(V): 1.65; VCC(Max)(V): 3.6; Output Type: CMOS; ICC @ Nom Voltage(Max)(mA): 0.01; Input Type: TTL,CMOS; Bits(#): 9; F @ Nom Voltage(Max)(Mhz): 100; Rating: Catalog; Technology Family: LVC; Voltage(Nom)(V): 1.8,2.5,2.7,3.3; Schmitt Trigger: No; Output Drive (IOL/IOH)(Max)(mA): 24/-24; Output Logic: Non-inverted; 3-State Output: Yes; tpd @ Nom Voltage(Max)(ns): 8.9,8; DatasheetVersion: SCAS305I; PackageReference: PW0024A; Supplier 1: Digi-Key; Supplier Part Number 1: SN74LVC823APW-ND; Supplier 2: Newark; Supplier Part Number 2: 32H6432; Supplier 3: Mouser; Supplier Part Number 3: 595-SN74LVC823APW; Operating Temperature Range(C): -40 to 85; Code_JEDEC: MO-153; ComponentLink1Description: Manufacturer URL; ComponentLink1URL: http://www.ti.com/; ComponentLink2Description: Datasheet; ComponentLink2URL: http://www.ti.com/lit/ds/symlink/sn74lvc823a.pdf; ComponentLink3Description: Package Specification; ComponentLink3URL: http://www.ti.com/lit/ml/mpds363/mpds363.pdf
footprint PW0024A_N (SOP, 24-Leads, Body 7.9x4.5mm, Pitch 0.65mm, IPC Medium Density)
footprint PW0024A_M (SOP, 24-Leads, Body 7.9x4.5mm, Pitch 0.65mm, IPC Low Density)
footprint PW0024A_L (SOP, 24-Leads, Body 7.9x4.5mm, Pitch 0.65mm, IPC High Density)
part A pins: 1 OE (in), 2 1D (in), 3 2D (in), 4 3D (in), 5 4D (in), 6 5D (in), 7 6D (in), 8 7D (in), 9 8D (in), 10 9D (in), 11 CLR (in), 13 CLK (in), 14 CLKEN (in), 15 9Q (hiz), 16 8Q (hiz), 17 7Q (hiz), 18 6Q (hiz), 19 5Q (hiz), 20 4Q (hiz), 21 3Q (hiz), 22 2Q (hiz), 23 1Q (hiz)
part B pins: 12 GND (power), 24 VCC (power)

## SN74LVC823APWR
designator U?
9-Bit Bus-Interface Flip-Flop With 3-State Outputs, PW0024A, LARGE T&R; Generic Part Number: SN74LVC823A; Manufacturer: Texas Instruments; PartNumber: SN74LVC823APWR; VCC(Min)(V): 1.65; VCC(Max)(V): 3.6; Output Type: CMOS; ICC @ Nom Voltage(Max)(mA): 0.01; Input Type: TTL,CMOS; Bits(#): 9; F @ Nom Voltage(Max)(Mhz): 100; Rating: Catalog; Technology Family: LVC; Voltage(Nom)(V): 1.8,2.5,2.7,3.3; Schmitt Trigger: No; Output Drive (IOL/IOH)(Max)(mA): 24/-24; Output Logic: Non-inverted; 3-State Output: Yes; tpd @ Nom Voltage(Max)(ns): 8.9,8; DatasheetVersion: SCAS305I; PackageReference: PW0024A; Supplier 1: Digi-Key; Supplier Part Number 1: 296-8544-2-ND; Supplier 2: Digi-Key; Supplier Part Number 2: 296-8544-1-ND; Supplier 3: Digi-Key; Supplier Part Number 3: 296-8544-6-ND; Supplier 4: Newark; Supplier Part Number 4: 92B1172; Supplier 5: Mouser; Supplier Part Number 5: 595-SN74LVC823APWR; Operating Temperature Range(C): -40 to 85; Code_JEDEC: MO-153; ComponentLink1Description: Manufacturer URL; ComponentLink1URL: http://www.ti.com/; ComponentLink2Description: Datasheet; ComponentLink2URL: http://www.ti.com/lit/ds/symlink/sn74lvc823a.pdf; ComponentLink3Description: Package Specification; ComponentLink3URL: http://www.ti.com/lit/ml/mpds363/mpds363.pdf
footprint PW0024A_N (SOP, 24-Leads, Body 7.9x4.5mm, Pitch 0.65mm, IPC Medium Density)
footprint PW0024A_M (SOP, 24-Leads, Body 7.9x4.5mm, Pitch 0.65mm, IPC Low Density)
footprint PW0024A_L (SOP, 24-Leads, Body 7.9x4.5mm, Pitch 0.65mm, IPC High Density)
part A pins: 1 OE (in), 2 1D (in), 3 2D (in), 4 3D (in), 5 4D (in), 6 5D (in), 7 6D (in), 8 7D (in), 9 8D (in), 10 9D (in), 11 CLR (in), 13 CLK (in), 14 CLKEN (in), 15 9Q (hiz), 16 8Q (hiz), 17 7Q (hiz), 18 6Q (hiz), 19 5Q (hiz), 20 4Q (hiz), 21 3Q (hiz), 22 2Q (hiz), 23 1Q (hiz)
part B pins: 12 GND (power), 24 VCC (power)

## SN74LVC823APWT
designator U?
9-Bit Bus-Interface Flip-Flop With 3-State Outputs, PW0024A, SMALL T&R; Generic Part Number: SN74LVC823A; Manufacturer: Texas Instruments; PartNumber: SN74LVC823APWT; VCC(Min)(V): 1.65; VCC(Max)(V): 3.6; Output Type: CMOS; ICC @ Nom Voltage(Max)(mA): 0.01; Input Type: TTL,CMOS; Bits(#): 9; F @ Nom Voltage(Max)(Mhz): 100; Rating: Catalog; Technology Family: LVC; Voltage(Nom)(V): 1.8,2.5,2.7,3.3; Schmitt Trigger: No; Output Drive (IOL/IOH)(Max)(mA): 24/-24; Output Logic: Non-inverted; 3-State Output: Yes; tpd @ Nom Voltage(Max)(ns): 8.9,8; DatasheetVersion: SCAS305I; PackageReference: PW0024A; Supplier 1: Digi-Key; Supplier Part Number 1: SN74LVC823APWT-ND; Supplier 2: Mouser; Supplier Part Number 2: 595-SN74LVC823APWT; Operating Temperature Range(C): -40 to 85; Code_JEDEC: MO-153; ComponentLink1Description: Manufacturer URL; ComponentLink1URL: http://www.ti.com/; ComponentLink2Description: Datasheet; ComponentLink2URL: http://www.ti.com/lit/ds/symlink/sn74lvc823a.pdf; ComponentLink3Description: Package Specification; ComponentLink3URL: http://www.ti.com/lit/ml/mpds363/mpds363.pdf
footprint PW0024A_N (SOP, 24-Leads, Body 7.9x4.5mm, Pitch 0.65mm, IPC Medium Density)
footprint PW0024A_M (SOP, 24-Leads, Body 7.9x4.5mm, Pitch 0.65mm, IPC Low Density)
footprint PW0024A_L (SOP, 24-Leads, Body 7.9x4.5mm, Pitch 0.65mm, IPC High Density)
part A pins: 1 OE (in), 2 1D (in), 3 2D (in), 4 3D (in), 5 4D (in), 6 5D (in), 7 6D (in), 8 7D (in), 9 8D (in), 10 9D (in), 11 CLR (in), 13 CLK (in), 14 CLKEN (in), 15 9Q (hiz), 16 8Q (hiz), 17 7Q (hiz), 18 6Q (hiz), 19 5Q (hiz), 20 4Q (hiz), 21 3Q (hiz), 22 2Q (hiz), 23 1Q (hiz)
part B pins: 12 GND (power), 24 VCC (power)

## SN74LVC841ADBR
designator U?
10-Bit Bus-Interface D-Type Latch With 3-State Outputs, DB0024A, LARGE T&R; Generic Part Number: SN74LVC841A; Manufacturer: Texas Instruments; PartNumber: SN74LVC841ADBR; VCC(Min)(V): 1.65; VCC(Max)(V): 3.6; Output Type: CMOS; Logic: True; Static Current: 0.01; Input Type: CMOS,TTL; Bits(#): 10; F @ Nom Voltage(Max)(Mhz): 100; Rating: Catalog; Technology Family: LVC; Voltage(Nom)(V): 1.8,2.5,2.7,3.3; Schmitt Trigger: No; Output Drive (IOL/IOH)(Max)(mA): 24/-24; Output Logic: Non-inverted; 3-State Output: Yes; tpd @ Nom Voltage(Max)(ns): 7.5,6.7; DatasheetVersion: SCAS307J; PackageReference: DB0024A; Supplier 1: Digi-Key; Supplier Part Number 1: 296-8550-2-ND; Supplier 2: Digi-Key; Supplier Part Number 2: 296-8550-1-ND; Supplier 3: Digi-Key; Supplier Part Number 3: 296-8550-6-ND; Supplier 4: Mouser; Supplier Part Number 4: 595-SN74LVC841ADBR; ICC @ Nom Voltage(Max)(mA): 0.01; Operating Temperature Range(C): -40 to 85; Code_JEDEC: MO-150; ComponentLink1Description: Manufacturer URL; ComponentLink1URL: http://www.ti.com/; ComponentLink2Description: Datasheet; ComponentLink2URL: http://www.ti.com/lit/ds/symlink/sn74lvc841a.pdf; ComponentLink3Description: Package Specification; ComponentLink3URL: http://www.ti.com/lit/ml/mpds509/mpds509.pdf
footprint DB0024A_N (SOP, 24-Leads, Body 5.6x8.5mm, Pitch 0.65mm, IPC Medium Density)
footprint DB0024A_M (SOP, 24-Leads, Body 5.6x8.5mm, Pitch 0.65mm, IPC Low Density)
footprint DB0024A_L (SOP, 24-Leads, Body 5.6x8.5mm, Pitch 0.65mm, IPC High Density)
pins: 1 ~{OE} (in), 2 1D (in), 3 2D (in), 4 3D (in), 5 4D (in), 6 5D (in), 7 6D (in), 8 7D (in), 9 8D (in), 10 9D (in), 11 10D (in), 12 GND (power), 13 LE (in), 14 10Q (hiz), 15 9Q (hiz), 16 8Q (hiz), 17 7Q (hiz), 18 6Q (hiz), 19 5Q (hiz), 20 4Q (hiz), 21 3Q (hiz), 22 2Q (hiz), 23 1Q (hiz), 24 VCC (power)

## SN74LVC841ADGVR
designator U?
10-Bit Bus-Interface D-Type Latch With 3-State Outputs, DGV0024A, LARGE T&R; Generic Part Number: SN74LVC841A; Manufacturer: Texas Instruments; PartNumber: SN74LVC841ADGVR; VCC(Min)(V): 1.65; VCC(Max)(V): 3.6; Output Type: CMOS; Logic: True; Static Current: 0.01; Input Type: CMOS,TTL; Bits(#): 10; F @ Nom Voltage(Max)(Mhz): 100; Rating: Catalog; Technology Family: LVC; Voltage(Nom)(V): 1.8,2.5,2.7,3.3; Schmitt Trigger: No; Output Drive (IOL/IOH)(Max)(mA): 24/-24; Output Logic: Non-inverted; 3-State Output: Yes; tpd @ Nom Voltage(Max)(ns): 7.5,6.7; DatasheetVersion: SCAS307J; PackageReference: DGV0024A; Supplier 1: Digi-Key; Supplier Part Number 1: 296-8551-2-ND; Supplier 2: Digi-Key; Supplier Part Number 2: 296-8551-1-ND; Supplier 3: Digi-Key; Supplier Part Number 3: 296-8551-6-ND; Supplier 4: Farnell; Supplier Part Number 4: 1236403; Supplier 5: Mouser; Supplier Part Number 5: 595-SN74LVC841ADGVR; ICC @ Nom Voltage(Max)(mA): 0.01; Operating Temperature Range(C): -40 to 85; Code_JEDEC: MO-153; ComponentLink1Description: Manufacturer URL; ComponentLink1URL: http://www.ti.com/; ComponentLink2Description: Datasheet; ComponentLink2URL: http://www.ti.com/lit/ds/symlink/sn74lvc841a.pdf; ComponentLink3Description: Package Specification; ComponentLink3URL: http://www.ti.com/lit/ml/mpds006c/mpds006c.pdf
footprint DGV0024A_N (SOP, 24-Leads, Body 4.5x5.1mm, Pitch 0.4mm, IPC Medium Density)
footprint DGV0024A_M (SOP, 24-Leads, Body 4.5x5.1mm, Pitch 0.4mm, IPC Low Density)
footprint DGV0024A_L (SOP, 24-Leads, Body 4.5x5.1mm, Pitch 0.4mm, IPC High Density)
pins: 1 ~{OE} (in), 2 1D (in), 3 2D (in), 4 3D (in), 5 4D (in), 6 5D (in), 7 6D (in), 8 7D (in), 9 8D (in), 10 9D (in), 11 10D (in), 12 GND (power), 13 LE (in), 14 10Q (hiz), 15 9Q (hiz), 16 8Q (hiz), 17 7Q (hiz), 18 6Q (hiz), 19 5Q (hiz), 20 4Q (hiz), 21 3Q (hiz), 22 2Q (hiz), 23 1Q (hiz), 24 VCC (power)